# Altium footprint library 音视频插座.PcbLib: 18 footprints (part 1 of 2)
Each footprint in its own frame and in the unit in brackets; x right, y up, seen from the top. Pads: shape width x height; smd on the part's side, far side on the other; paste and mask are expansions set on the pad; w line width, h text height; cw(c..) or ccw(c..) is an arc to the next point about the centre after c.
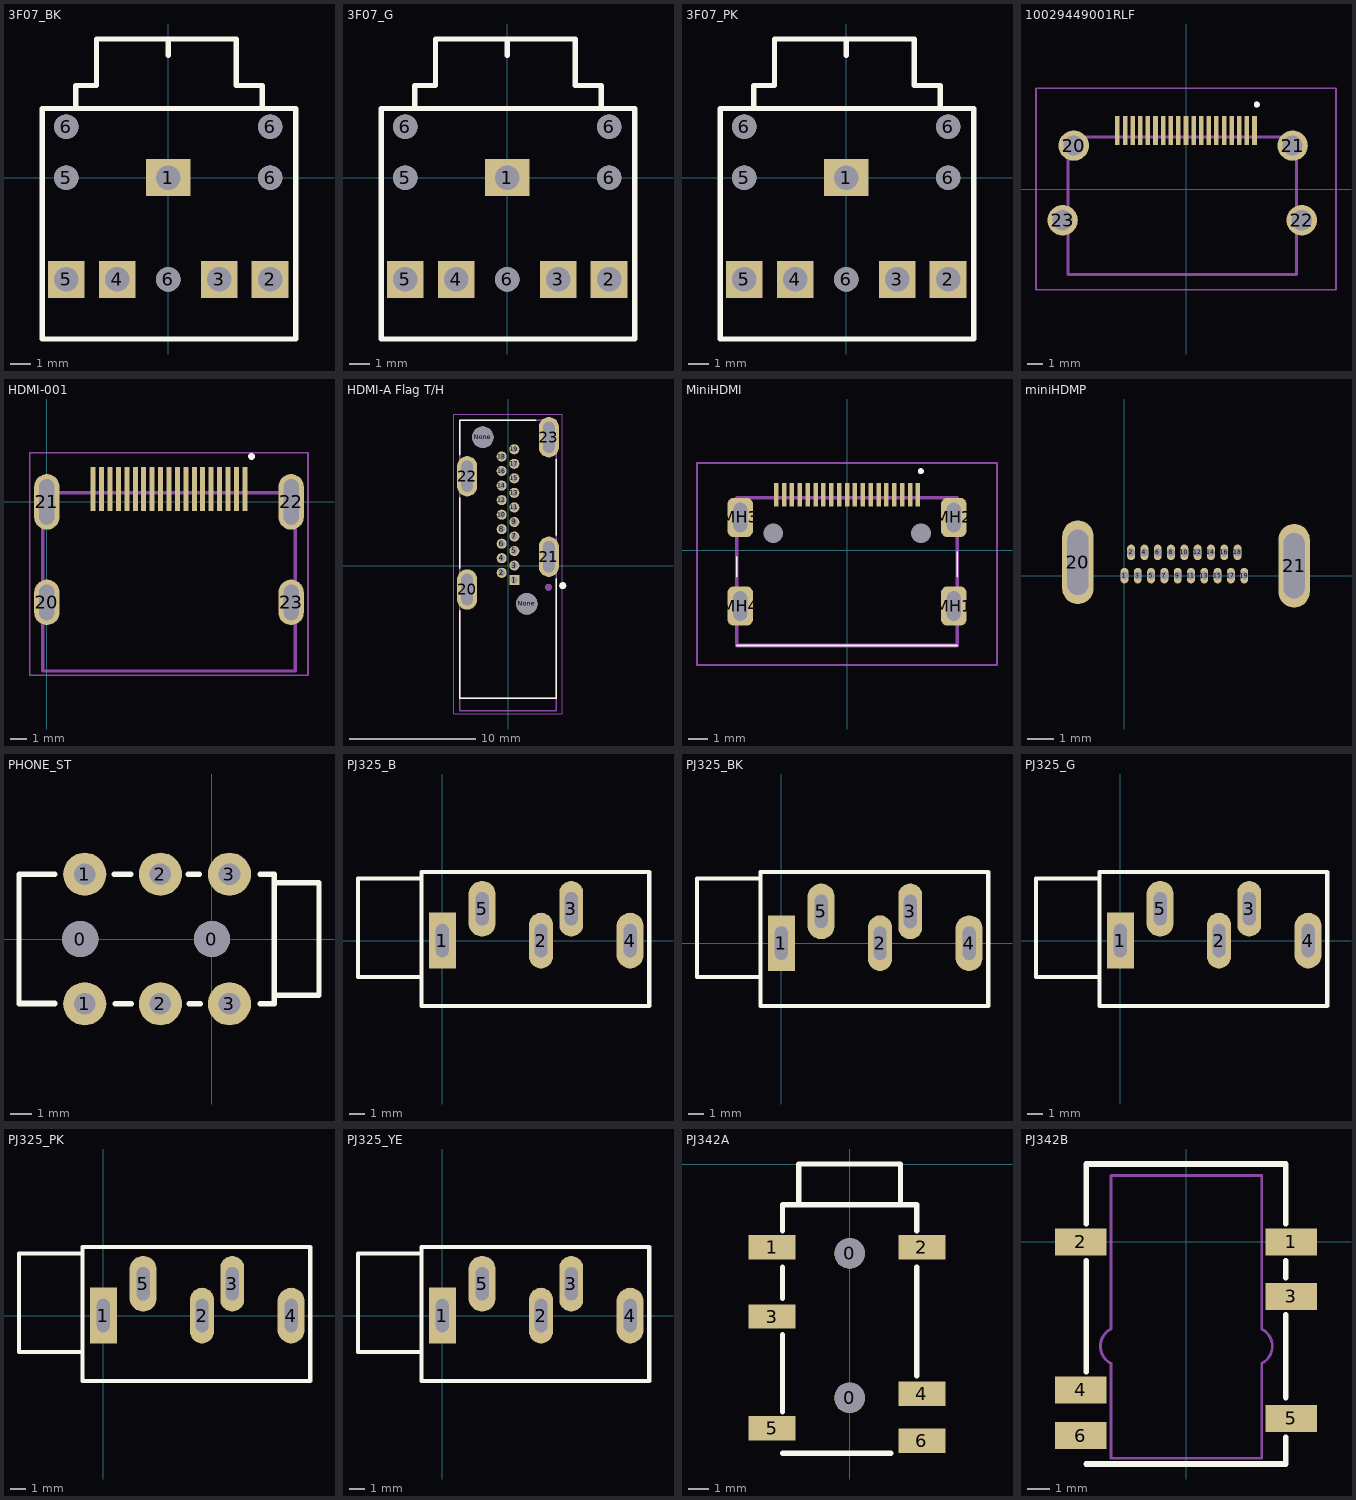
[diagram p0: the footprints below, top view; thin cyan lines are the x and y axes]

## 3F07_BK [mm] "黑色，14.2*12*5mm"
pads (10):
  rect 2.2x1.8 hole 1.2: 1(0,0)
  rect 1.8x1.8 hole 1.2: 2(5,-5) 3(2.5,-5) 4(-2.5,-5) 5(-5,-5)
  round 1.2 hole 1.2 unplated: 5(-5,0) 6(-5,2.5) 6(0,-5) 6(5,0) 6(5,2.5)
Top Overlay:
  lines w0.254: -4.532,3.382 -4.532,4.525 -3.516,4.525 -3.516,6.8 3.342,6.8 3.342,4.525 4.612,4.525 4.612,3.382 ; 0,6 0,6.8 ; -6.183,-7.921 -6.183,3.382 6.263,3.382 6.263,-7.921 -6.183,-7.921
3D body "3F07_BK-.STEP": height 5.6, standoff -2.9, extent -5.969,-7.735 6.031,6.465

## 3F07_G [mm] "绿色，14.2*12*5mm"
pads (10):
  rect 2.2x1.8 hole 1.2: 1(0,0)
  rect 1.8x1.8 hole 1.2: 2(5,-5) 3(2.5,-5) 4(-2.5,-5) 5(-5,-5)
  round 1.2 hole 1.2 unplated: 5(-5,0) 6(-5,2.5) 6(0,-5) 6(5,0) 6(5,2.5)
Top Overlay:
  lines w0.254: -4.532,3.382 -4.532,4.525 -3.516,4.525 -3.516,6.8 3.342,6.8 3.342,4.525 4.612,4.525 4.612,3.382 ; 0,6 0,6.8 ; -6.183,-7.921 6.263,-7.921 6.263,3.382 -6.183,3.382 -6.183,-7.921
3D body "3F07_G-.STEP": height 5.6, standoff -2.9, extent -5.969,-7.735 6.031,6.465

## 3F07_PK [mm] "粉色，14.2*12*5mm"
pads (10):
  rect 2.2x1.8 hole 1.2: 1(0,0)
  rect 1.8x1.8 hole 1.2: 2(5,-5) 3(2.5,-5) 4(-2.5,-5) 5(-5,-5)
  round 1.2 hole 1.2 unplated: 5(-5,0) 6(-5,2.5) 6(0,-5) 6(5,0) 6(5,2.5)
Top Overlay:
  lines w0.254: -4.532,3.382 -4.532,4.525 -3.516,4.525 -3.516,6.8 3.342,6.8 3.342,4.525 4.612,4.525 4.612,3.382 ; 0,6 0,6.8 ; -6.183,-7.921 6.263,-7.921 6.263,3.382 -6.183,3.382 -6.183,-7.921
3D body "3F07_PK-.STEP": height 5.6, standoff -2.9, extent -6.031,-7.608 5.969,6.592

## 10029449001RLF [mm]
pads (23):
  rect 0.3x1.9 smd: 1(4.499,3.85) 2(3.999,3.85) 3(3.499,3.85) 4(2.999,3.85) 5(2.499,3.85) 6(1.999,3.85) 7(1.499,3.85) 8(0.999,3.85) 9(0.499,3.85) 10(-0.001,3.85) 11(-0.501,3.85) 12(-1.001,3.85) 13(-1.501,3.85) 14(-2.001,3.85) 15(-2.501,3.85) 16(-3.001,3.85) 17(-3.501,3.85) 18(-4.001,3.85) 19(-4.501,3.85)
  round 1.995 hole 1.33: 20(-7.366,2.85) 21(6.999,2.85) 22(7.599,-2.05) 23(-8.101,-2.05)
Top Overlay:
  lines w0.3: 4.649,5.5 cw(c4.649,5.55) 4.649,5.6 cw(c4.649,5.55) 4.649,5.5
Mechanical 13:
  lines w0.2: -7.751,-5.6 -7.751,3.4 7.249,3.4 7.249,-5.6 -7.751,-5.6
Mechanical 15:
  lines w0.1: -9.848,-6.6 -9.848,6.6 9.848,6.6 9.848,-6.6 -9.848,-6.6
Mechanical 29:
  lines w0.1: -9.848,-6.6 9.848,-6.6 9.848,6.6 -9.848,6.6 -9.848,-6.6
  lines w0.3: 4.649,5.5 cw(c4.649,5.55) 4.649,5.6
3D body "User Library-10029449-001LF.STEP": height 6.28, standoff -1.72, extent -8.354,-5.588 7.846,4.312

## HDMI-001 [mm]
pads (23):
  rect 0.3x2.6 smd: 1(11.75,0.76) 2(11.25,0.76) 3(10.75,0.76) 4(10.25,0.76) 5(9.75,0.76) 6(9.25,0.76) 7(8.75,0.76) 8(8.25,0.76) 9(7.75,0.76) 10(7.25,0.76) 11(6.75,0.76) 12(6.25,0.76) 13(5.75,0.76) 14(5.25,0.76) 15(4.75,0.76) 16(4.25,0.76) 17(3.75,0.76) 18(3.25,0.76) 19(2.75,0.76)
  oval 1.5x2.7 hole 2.1 slot 0.9 at 0 deg: 20(0,-5.96) 23(14.5,-5.96)
  oval 1.5x3.3 hole 2.7 slot 0.9 at 0 deg: 21(0,0) 22(14.5,0)
Top Overlay:
  lines w0.3: 12.15,2.65 ccw(c12.15,2.7) 12.15,2.75 ccw(c12.15,2.7) 12.15,2.65
Mechanical 13:
  lines w0.2: -0.25,-10.033 14.75,-10.033 14.75,0.55 -0.25,0.55 -0.25,-10.033
Mechanical 15:
  lines w0.1: -1.016,-10.287 15.494,-10.287 15.494,2.921 -1.016,2.921 -1.016,-10.287
Mechanical 29:
  lines w0.1: -1.016,-10.287 -1.016,2.921 15.494,2.921 15.494,-10.287 -1.016,-10.287
  lines w0.3: 12.15,2.65 cw(c12.15,2.7) 12.15,2.75
  text "'.Designator'" at 2.159,-4.826 h1.02
3D body "HDMI SMT 19.stp": height 5.98, standoff -2.3, extent -0.007,-10.033 14.993,1.967

## HDMI-A Flag T/H [mm]
pads (25):
  rect 0.8x0.8 hole 0.55: 1(0.5,-1.15)
  round 0.8 hole 0.55: 2(-0.5,-0.572) 3(0.5,0.005) 4(-0.5,0.583) 5(0.5,1.16) 6(-0.5,1.738) 7(0.5,2.315) 8(-0.5,2.893) 9(0.5,3.47) 10(-0.5,4.048) 11(0.5,4.625) 12(-0.5,5.203) 13(0.5,5.78) 14(-0.5,6.358) 15(0.5,6.935) 16(-0.5,7.513) 17(0.5,8.09) 18(-0.5,8.668) 19(0.5,9.245)
  oval 1.6x3.2 hole 0.9 slot 2.5 at 90 deg: 20(-3.25,-1.9) 21(3.25,0.7) 22(-3.25,7.1) 23(3.25,10.2)
  round 1.7 hole 1.7 unplated: None(-2,10.2) None(1.5,-3.05)
Top Overlay:
  circle w0.28: c4.353,-1.6 r0.14
  lines w0.127: -3.85,-3.6 -3.85,-10.55 3.85,-10.55 3.85,-1.05 ; -3.85,-0.2 -3.85,5.4 ; -3.85,8.8 -3.85,11.55 2.203,11.55 ; 3.85,2.4 3.85,8.45
Mechanical 1:
  lines w0: -3.7,-2.8 -3.7,-1 ; -3.7,-2.798 ccw(c-3.24,-2.79) -3.232,-3.25 ccw(c-3.24,-2.81) -2.8,-2.802 ; -3.7,-1.002 cw(c-3.24,-1.01) -3.232,-0.55 cw(c-3.24,-0.99) -2.8,-0.998 ; -3.7,6.2 -3.7,8 ; -3.7,6.202 ccw(c-3.24,6.21) -3.232,5.75 ccw(c-3.24,6.19) -2.8,6.198 ; -3.7,7.998 cw(c-3.24,7.99) -3.232,8.45 cw(c-3.24,8.01) -2.8,8.002 ; -2.8,-2.8 -2.8,-1 ; -2.8,6.2 -2.8,8 ; 3.7,-0.2 cw(c3.243,-0.192) 3.235,-0.65 cw(c3.243,-0.208) 2.8,-0.2 2.8,1.6 cw(c3.243,1.607) 3.235,2.05 cw(c3.243,1.593) 3.7,1.6 3.7,-0.2 ; 3.7,9.3 cw(c3.243,9.307) 3.235,8.85 cw(c3.243,9.293) 2.8,9.3 2.8,11.1 cw(c3.243,11.107) 3.235,11.55 cw(c3.243,11.093) 3.7,11.1 ; 3.7,9.3 3.7,11.1
Mechanical 7:
  lines w0.127: -3.85,-11.55 -3.85,11.55 ; -3.85,-11.55 -3.85,11.55 ; -3.85,-11.55 3.85,-11.55 ; -3.85,-11.55 3.85,-11.55 ; -3.85,11.55 3.85,11.55 ; -3.85,11.55 3.85,11.55 ; 3.85,-11.55 3.85,-10.55 ; 3.85,-11.55 3.85,-10.55 ; 3.85,-10.55 3.85,11.55 ; 3.85,-10.55 3.85,11.55
Mechanical 15:
  lines w0.05: -4.31,-11.8 -4.31,12.05 4.31,12.05 4.31,-11.8 -4.31,-11.8
Mechanical 29:
  circle w0.28: c3.21,-1.727 r0.14
  lines w0.127: -3.85,-3.6 -3.85,-10.55 3.85,-10.55 3.85,-1.05 ; -3.85,-0.2 -3.85,5.4 ; -3.85,8.8 -3.85,11.55 2.203,11.55 ; 3.85,2.4 3.85,8.45
  text "'.Designator'" at -4.699,2.794 h1.02
3D body "HDMI-TYPEA TH.stp": height 16.4, standoff -3.75, extent -3.89,-11.43 3.85,11.647

## MiniHDMI [mm] "Mini HDMI ATOM(爱特姆)  厂家型号： HD219F-3D05200"
pads (25):
  rect 0.23x1.2 smd: 1(3.605,2.825) 2(3.205,2.825) 3(2.805,2.825) 4(2.405,2.825) 5(2.005,2.825) 6(1.605,2.825) 7(1.205,2.825) 8(0.805,2.825) 9(0.405,2.825) 10(0.005,2.825) 11(-0.395,2.825) 12(-0.795,2.825) 13(-1.195,2.825) 14(-1.595,2.825) 15(-1.995,2.825) 16(-2.395,2.825) 17(-2.795,2.825) 18(-3.195,2.825) 19(-3.595,2.825)
  rrect50% 1.3x2 hole 1.5 slot 0.7 at 0 deg: MH1(5.425,-2.825) MH2(5.425,1.675) MH3(-5.425,1.675) MH4(-5.425,-2.825)
  round 0.5 hole 1 unplated: MH5(3.755,0.875) MH6(-3.745,0.875)
Top Overlay:
  lines w0.1: -5.6,-4.825 5.6,-4.825 -5.6,-4.825 ; -5.6,-1.325 -5.6,-0.325 -5.6,-1.325 ; 5.6,-1.325 5.6,-0.075 5.6,-1.325
  lines w0.2: 3.7,4.025 cw(c3.75,4.025) 3.8,4.025 ; 3.7,4.025 ccw(c3.75,4.025) 3.8,4.025 ; 3.7,4.025 3.8,4.025
Mechanical 13:
  lines w0.2: -5.6,-4.825 -5.6,2.675 5.6,2.675 5.6,-4.825 -5.6,-4.825
Mechanical 15:
  lines w0.1: -7.62,-5.825 -7.62,4.445 7.62,4.445 7.62,-5.825 -7.62,-5.825
Mechanical 29:
  lines w0.1: -7.62,-5.825 7.62,-5.825 7.62,4.445 -7.62,4.445 -7.62,-5.825
  lines w0.2: 3.7,4.025 3.8,4.025
3D body "Mini HDMI.stp": height 3.6, standoff -0.45, extent -5.6,-5.393 5.6,2.307

## miniHDMP [mm]
pads (21):
  oval 0.3x0.6 hole 0.3: 1(0,0) 2(0.254,0.889) 3(0.508,0) 4(0.762,0.889) 5(1.016,0) 6(1.27,0.889) 7(1.524,0) 8(1.778,0.889) 9(2.032,0) 10(2.286,0.889) 11(2.54,0) 12(2.794,0.889) 13(3.048,0) 14(3.302,0.889) 15(3.556,0) 16(3.81,0.889) 17(4.064,0) 18(4.318,0.889) 19(4.572,0)
  oval 1.2x3.2 hole 2.5 slot 0.8 at 0 deg: 20(-1.778,0.508) 21(6.477,0.381)

## PHONE_ST [mm]
pads (8):
  round 1.676 hole 1.676: 0(-6.096,0) 0(0,0)
  round 2 hole 1: 1(-5.89,-3) 1(-5.89,3) 2(-2.39,-3) 2(-2.39,3) 3(0.81,-3) 3(0.81,3)
Top Overlay:
  lines w0.254: -8.933,-2.969 -7.282,-2.969 ; -7.282,-3.007 -8.933,-3.007 -8.933,3 -7.282,3 ; -4.526,3 -3.764,3 ; -4.488,-3.007 -3.726,-3.007 ; -1.097,3 -0.589,3 ; -1.059,-3.007 -0.551,-3.007 ; 2.243,-3.007 2.79,-3.007 ; 2.243,3 2.878,3 2.878,-3.007 ; 2.878,-2.6 4.953,-2.6 4.953,2.6 2.878,2.6

## PJ325_B [mm] "蓝色，18*8.1*12.3mm"
pads (5):
  rect 1.7x3.5 hole 0.8 slot 2.1 at 90 deg: 1(0,0)
  oval 1.5x3.5 hole 0.8 slot 2.1 at 90 deg: 2(6.2,0) 3(8.1,2)
  oval 1.7x3.5 hole 0.8 slot 2.1 at 90 deg: 4(11.8,0) 5(2.5,2)
Top Overlay:
  lines w0.254: -1.3,-2.3 -5.3,-2.3 -5.3,3.9 -1.3,3.9 ; -1.3,-4.1 13,-4.1 13,4.3 -1.3,4.3 -1.3,-4.1
3D body "PJ325_B-.STEP": height 12.35, standoff -2.9, extent -5.203,-3.923 12.827,4.177

## PJ325_BK [mm] "黑色，18*8.1*12.3mm"
pads (5):
  rect 1.7x3.5 hole 0.8 slot 2.1 at 90 deg: 1(0,0)
  oval 1.5x3.5 hole 0.8 slot 2.1 at 90 deg: 2(6.2,0) 3(8.1,2)
  oval 1.7x3.5 hole 0.8 slot 2.1 at 90 deg: 4(11.8,0) 5(2.5,2)
Top Overlay:
  lines w0.254: -1.3,-2.136 -5.3,-2.136 -5.3,4.064 -1.3,4.064 ; -1.3,-3.936 -1.3,4.464 13,4.464 13,-3.936 -1.3,-3.936
3D body "PJ325_BK-.STEP": height 12.35, standoff -2.9, extent -5.203,-3.923 12.827,4.177

## PJ325_G [mm] "绿色，18*8.1*12.3mm"
pads (5):
  rect 1.7x3.5 hole 0.8 slot 2.1 at 90 deg: 1(0,0)
  oval 1.5x3.5 hole 0.8 slot 2.1 at 90 deg: 2(6.2,0) 3(8.1,2)
  oval 1.7x3.5 hole 0.8 slot 2.1 at 90 deg: 4(11.8,0) 5(2.5,2)
Top Overlay:
  lines w0.254: -1.3,-2.3 -5.3,-2.3 -5.3,3.9 -1.3,3.9 ; -1.3,-4.1 -1.3,4.3 13,4.3 13,-4.1 -1.3,-4.1
3D body "PJ325_G-.STEP": height 12.35, standoff -2.9, extent -5.205,-3.937 12.825,4.163

## PJ325_PK [mm] "粉色，18*8.1*12.3mm"
pads (5):
  rect 1.7x3.5 hole 0.8 slot 2.1 at 90 deg: 1(0,0)
  oval 1.5x3.5 hole 0.8 slot 2.1 at 90 deg: 2(6.2,0) 3(8.1,2)
  oval 1.7x3.5 hole 0.8 slot 2.1 at 90 deg: 4(11.8,0) 5(2.5,2)
Top Overlay:
  lines w0.254: -1.3,-2.3 -5.3,-2.3 -5.3,3.9 -1.3,3.9 ; -1.3,-4.1 -1.3,4.3 13,4.3 13,-4.1 -1.3,-4.1
3D body "PJ325_PK-.STEP": height 12.35, standoff -2.9, extent -5.205,-3.909 12.825,4.191

## PJ325_YE [mm] "黄色，18*8.1*12.3mm"
pads (5):
  rect 1.7x3.5 hole 0.8 slot 2.1 at 90 deg: 1(0,0)
  oval 1.5x3.5 hole 0.8 slot 2.1 at 90 deg: 2(6.2,0) 3(8.1,2)
  oval 1.7x3.5 hole 0.8 slot 2.1 at 90 deg: 4(11.8,0) 5(2.5,2)
Top Overlay:
  lines w0.254: -1.3,-2.3 -5.3,-2.3 -5.3,3.9 -1.3,3.9 ; -1.3,-4.1 13,-4.1 13,4.3 -1.3,4.3 -1.3,-4.1
3D body "PJ325_YE-.STEP": height 12.35, standoff -2.9, extent -5.205,-3.937 12.825,4.163

## PJ342A [mm] "有头"
pads (8):
  round 1.5 hole 1.5: 0(0,-11.5) 0(0,-4.4)
  rect 2.3x1.2 smd: 1(-3.81,-4.1) 2(3.556,-4.1) 3(-3.81,-7.5) 4(3.556,-11.3) 5(-3.81,-13) 6(3.556,-13.6)
Top Overlay:
  lines w0.254: -3.302,-14.224 2.032,-14.224 ; -3.302,-12.192 -3.302,-8.382 ; -3.302,-6.604 -3.302,-5.08 ; -3.302,-3.302 -3.302,-2 3.302,-2 3.302,-3.302 ; -2.5,-2 -2.5,0 2.5,0 2.5,-2 ; 3.302,-10.414 3.302,-5.08
3D body "PJ342A-.STEP": height 4.7, standoff -0.6, extent -4.191,-14.162 4.109,-0.062

## PJ342B [mm] "沉板式，无头"
pads (6):
  rect 2.3x1.2 smd: 1(4.699,0) 2(-4.699,0) 3(4.699,-2.43) 4(-4.699,-6.604) 5(4.699,-7.874) 6(-4.699,-8.636)
Top Overlay:
  lines w0.254: -4.445,-9.906 4.445,-9.906 4.445,-9.476 4.445,-8.714 ; -4.445,-5.793 -4.445,-0.84 ; -4.445,0.811 -4.445,3.478 4.445,3.478 4.445,0.811 ; 4.445,-6.936 4.445,-3.253 ; 4.445,-1.602 4.445,-0.84
Mechanical 1:
  lines w0.127: -3.353,-9.652 -3.353,-5.412 cw(c-2.972,-4.65) -3.353,-3.888 -3.353,2.97 3.378,2.97 3.378,-3.888 cw(c2.997,-4.65) 3.378,-5.412 3.378,-9.652 -3.353,-9.652
3D body "PJ342B-.STEP": height 1.25, standoff -2.75, extent -4.572,-9.285 4.928,3.697